# Altium schematic symbol library Antenna 2.4 GHz.SchLib: 1 symbol
Pins are listed as number, name and electrical type; pins without a type are passive.

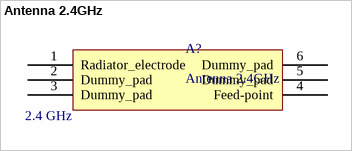
[diagram p0: symbol Antenna 2.4GHz]

## Antenna 2.4GHz
designator A?  Frequency Range: 2.4 GHz
SMD Antennas RoHS; Manufacturer: TDK; Mfr.Part #: ANT016008LCS2442MA2; ComponentLink1Description: Datasheet; ComponentLink1URL: https://datasheet.lcsc.com/szlcsc/1809131538_TDK-ANT016008LCS2442MA2_C209892.pdf; LCSC Part #: C209892
footprint PCBComponent_1
pins: 1 Radiator_electrode, 2 Dummy_pad, 3 Dummy_pad, 4 Feed-point, 5 Dummy_pad, 6 Dummy_pad